# Altium schematic symbol library PowerHAT_1A1.SCHLIB: 21 symbols
Pins are listed as number, name and electrical type; pins without a type are passive.

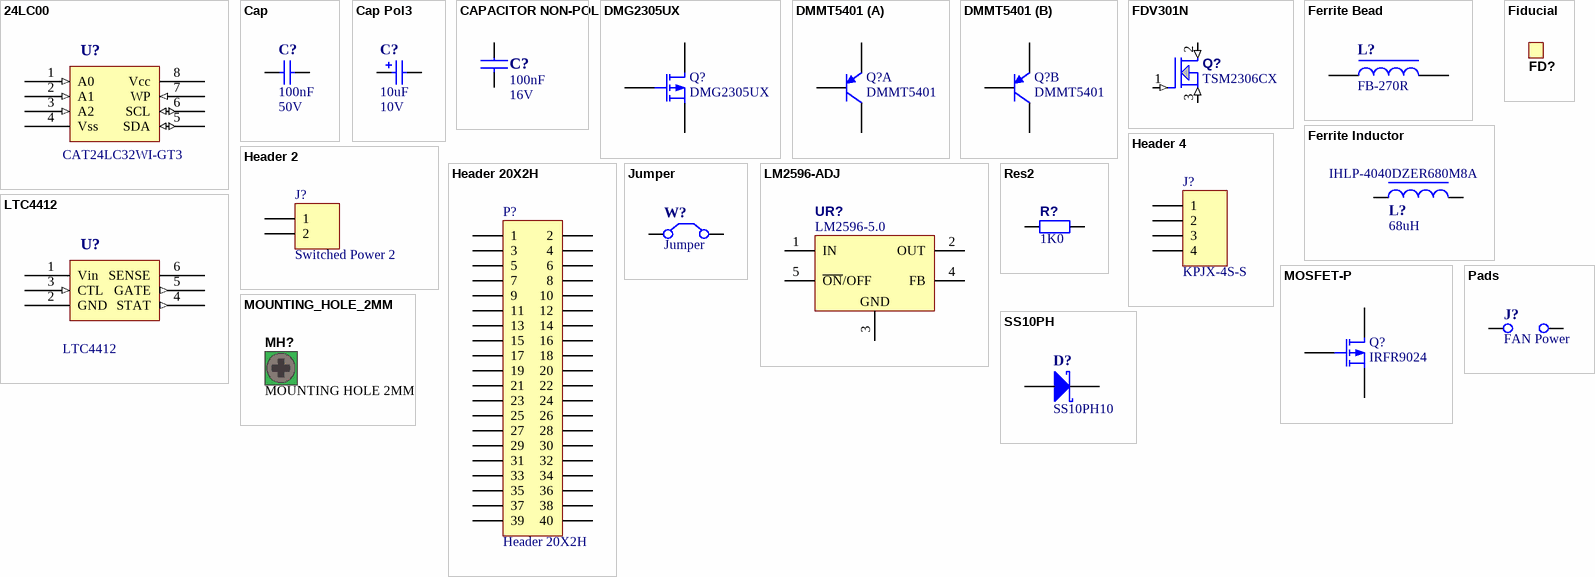
[diagram p0: symbols 24LC00 to SS10PH]

## 24LC00
designator U?, comment CAT24LC32WI-GT3
Text Field1: 60; Text Field2: 50
footprint S0-8
footprint SO-8
pins: 1 A0 (in), 2 A1 (in), 3 A2 (in), 4 Vss (power), 5 SDA (io), 6 SCL (io), 7 WP (in), 8 Vcc (power)

## Cap
designator C?, comment 100nF  Voltage: 50V
Capacitor; Farnell PN: 114-1772; Value: 100nF
footprint SM/R_0603
pins: 1, 2

## Cap Pol3
designator C?, comment 10uF  Voltage: 10V
Polarized Capacitor (Surface Mount); Value: 10uF
footprint 1206 (Multicomp HP06)
footprint 1812 (Chip Capacitor, Body 4.5x3.2mm, IPC High Density)
footprint 1825 (Chip Capacitor, Body 4.5x6.4mm, IPC High Density)
footprint C2225 (Chip Capacitor, Body 5.7x6.4mm, IPC High Density)
footprint 2220 (Chip Capacitor, Body 5.7x5.0mm, IPC High Density)
pins: 1, 2
1 alternate drawing of the same symbol

## CAPACITOR NON-POL
designator C?, comment 100nF  Voltage: 16V
MLCC 100nF 0402 X7R 16V; Text Field1: 20; Text Field2: 10; Capacitance: 100nF; Dielectric: X7R
footprint 0603_C
pins: 1, 2

## DMG2305UX
designator Q?
P-Channel MOSFET; Published: 8-Jun-2000; LatestRevisionDate: 17-Jul-2002; LatestRevisionNote: Re-released for DXP Platform.; PackageVersion: 1995/1996; PackageReference: E3; Publisher: Altium Limited; PackageDescription: TO, Flat Index; 3 In-Line, Axial Leads; Body Dia. 4.6mm; Lead Dia. 0.5 mm (max)
footprint SOT23_M (Footprint not found)
simulation model PMOS (MOSFET-P)
pins: 1 D, 2 G, 3 S

## DMMT5401
designator Q?
Dual Ballanced PNP Bipolar Transistor; Published: 8-Jun-2000; LatestRevisionDate: 29-May-2009; LatestRevisionNote: IPC-7351 Footprint Added.; PackageVersion: Aug-1999; PackageReference: SOT-23B; Publisher: Altium Limited; PackageDescription: 3-Pin SOT-23 Package 0.95 mm Pitch, 2.4 mm Lead Span
footprint SOT23-6_M (SOT23, 6-Leads, Body 2.9x1.6mm, Pitch 0.95mm, Lead Span 2.7mm, IPC Low Density)
simulation model PNP
signal-integrity model PNP
part A pins: 1 C, 2 B, 6 E
part B pins: 3 B, 4 C, 5 E

## FDV301N
designator Q?, comment TSM2306CX
MOSFET, N Channel, 30 V, 3.5 A, 0.046 ohm, SOT-23; Full Part Number: TSM2306CX RFG; Name: TSM2306CX; Farnell: 186-4577
footprint FDV301N
pins: 1 G (in), 2 D (in), 3 S (in)

## Ferrite Bead
designator L?, comment FB-270R
Ferrite Bead; Manufacturer: Wurth; Manufacturer PN: 74279224271; Value: FB-270R; Farnell Number: 206-6850
footprint 1206 (Multicomp HP06)
simulation model INDUCTOR (Inductor)
signal-integrity model Inductor Iron
footprint 2029 (Chip Inductor, Body 2.0x1.2mm, IPC High Density)
footprint Model Name (Footprint not found)
footprint 2220 (Chip Capacitor, Body 5.7x5.0mm, IPC High Density)
pins: 1, 2

## Ferrite Inductor
designator L?, comment 68uH  Part Number 68: IHLP-4040DZER680M8A
Ferrite Inductor; Manufacturer: Vishay; Value47: 47uH; Saturation Current: 4.1A; Part Number 47: IHLP-4040DZER470M11; Farnell Number 47: 154-7059; Value68: 68uH; Farnell Number 68: 296-5633
footprint 0402-A (Chip Inductor, Body 1.0x0.5mm, IPC High Density)
footprint INDC1608L (Chip Inductor, Body 1.6x0.8mm, IPC High Density)
footprint 2029 (Chip Inductor, Body 2.0x1.2mm, IPC High Density)
footprint 0603 (Chip Inductor, Body 0.6x0.3mm, IPC High Density)
footprint INDC3216 (Chip Inductor, Body 3.2x1.6mm, IPC High Density)
footprint IHLP4040DZER (Power Choke)
simulation model INDUCTOR (Inductor)
signal-integrity model Inductor
pins: 1, 2

## Fiducial
designator FD?  (value not drawn)  (no BOM)
Registration Fiducial; Category: Graphic-PCB; Status: Production
footprint Fiducial (Registration Fiducial)

## Header 2
designator J?, comment Switched Power 2
Power Jack; GCT: DCJ250-20-B-K1-A; LatestRevisionDate: 17-Jul-2002; LatestRevisionNote: Re-released for DXP Platform.; Publisher: Altium Limited; Farnell: 267-3247
footprint DCJ250-20 (Power Jack)
signal-integrity model Connector
pins: 1, 2

## Header 4
designator J?, comment KPJX-4S-S
Power 4-Pin; LatestRevisionDate: 17-Jul-2002; LatestRevisionNote: Re-released for DXP Platform.; Publisher: Altium Limited; Farnell: 283-9851; Kycom: KPJX-4S-S
footprint KPJX-4S-S (Kycom 4 pin power connector)
signal-integrity model Connector
pins: 1, 2, 3, 4

## Header 20X2H
designator P?
Header, 20-Pin, Dual row, Right Angle; LatestRevisionDate: 17-Jul-2002; LatestRevisionNote: Re-released for DXP Platform.; Publisher: Altium Limited
footprint Header40 Invert (40 Pin Header)
signal-integrity model Connector
pins: 1, 2, 3, 4, 5, 6, 7, 8, 9, 10, 11, 12, 13, 14, 15, 16, 17, 18, 19, 20, 21, 22, 23, 24, 25, 26, 27, 28, 29, 30, 31, 32, 33, 34, 35, 36, 37, 38, 39, 40

## Jumper
designator W?
Jumper Wire; Published: 24-Mar-1999; LatestRevisionDate: 17-Jul-2002; LatestRevisionNote: Re-released for DXP Platform.; PackageReference: RAD-0.2; Publisher: Altium Limited
footprint Link2
pins: 1 C1, 2 C2

## LM2596-ADJ
designator UR?, comment LM2596-5.0
1000mA DC/DC Convertor, 3-pin SIP; PartNumber: TO-263; TI PN: LM2596-5.0; PinCount: 4; Farnell: 300-8164
footprint LM2596 (TI LM2596 TO-263)
pins: 1 IN (power), 2 OUT (power), 3 GND (power), 4 FB (power), 5 ~{ON}/OFF (power)

## LTC4412
designator U?
Text Field1: 60; Text Field2: 50
footprint S0-8
footprint SOT23-6_M (SOT23, 6-Leads, Body 2.9x1.6mm, Pitch 0.95mm, Lead Span 2.7mm, IPC Low Density)
pins: 1 Vin (power), 2 GND (power), 3 CTL (in), 4 STAT (out), 5 GATE (out), 6 SENSE (power)

## MOSFET-P
designator Q?, comment IRFR9024
P-Channel MOSFET; Published: 8-Jun-2000; LatestRevisionDate: 17-Jul-2002; LatestRevisionNote: Re-released for DXP Platform.; PackageVersion: 1995/1996; PackageReference: E3; Publisher: Altium Limited; PackageDescription: TO, Flat Index; 3 In-Line, Axial Leads; Body Dia. 4.6mm; Lead Dia. 0.5 mm (max)
footprint TO-252AA
simulation model PMOS (MOSFET-P)
pins: 1 D, 2 G, 3 S

## MOUNTING_HOLE_2MM
designator MH?, comment MOUNTING HOLE 2MM  (no BOM)
Mounting Hole, M2 Screw, Plated, Square Pad; Category: Mounting-Hole; Status: Production
footprint MOUNTING_HOLE_2MM (Non-plated mounting hole for 3mm screw)
pins: MOUNT hidden

## Pads
designator J?, comment FAN Power
2 pads; Published: 24-Mar-1999; LatestRevisionDate: 17-Jul-2002; LatestRevisionNote: Re-released for DXP Platform.; PackageReference: RAD-0.2; Publisher: Altium Limited
footprint Link2
pins: 1 C1, 2 C2

## Res2
designator R?, comment 1K0
Resistor; Published: 8-Jun-2000; LatestRevisionDate: 17-Jul-2002; LatestRevisionNote: Re-released for DXP Platform.; PackageReference: AXIAL-0.4; Publisher: Altium Limited; PackageDescription: Axial Device, Thru-Hole; 2 Leads; 0.4 in Pin Spacing; Value: 1K0
footprint AXIAL-0.4 (Axial Device, Thru-Hole; 2 Leads; 0.4 in Pin Spacing)
simulation model RESISTOR (Resistor)
signal-integrity model Res
footprint SM/R_0603
pins: 1, 2

## SS10PH
designator D?, comment SS10PH10
Schottky Rectifier; Manufacturer: Vishay; Farnell PN: 181-5648; Manufacturer PN: SS10PH10
footprint TO-277A (Diode; 3 Leads)
simulation model 10TQ035 (DIODE)
pins: 1 K, 2 A1, 3 A2